# EAGLE library part 794623-8 (library con-amp_edit)
MICRO MATE N LOK Dual Row, grid 1.5 mm Source: http://catalog.tycoelectronics.com .. ENG_CD_794623_F.pdf
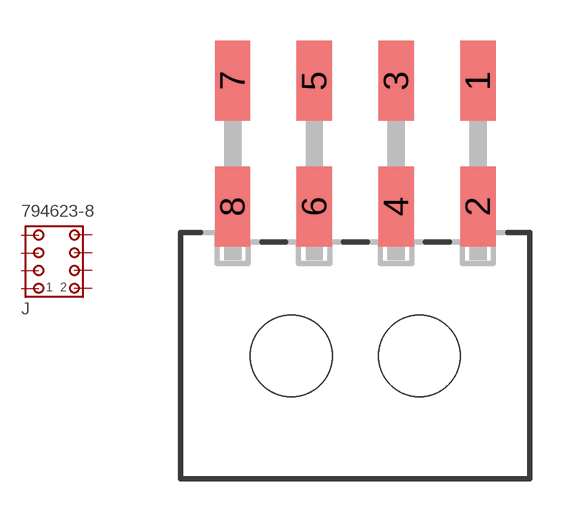
[diagram p144: symbol with the pads of 794623-8; footprint 794623-8]

Designator prefix J

## 794623-8  [794623-8]
1  1  pas
2  2  pas
3  3  pas
4  4  pas
5  5  pas
6  6  pas
7  7  pas
8  8  pas

## Footprint 794623-8 (pad centres in mm)
MICRO MATE N LOK Dual Row, grid 1.5 mm Source: http://catalog.tycoelectronics.com .. ENG_CD_794623_F.pdf
smd 1.3 x 2.92: 1 4.5,10.1; 2 4.5,5.48; 3 1.5,10.1; 4 1.5,5.48; 5 -1.5,10.1; 6 -1.5,5.48; 7 -4.5,10.1; 8 -4.5,5.48
hole 3 at -2.35,0
hole 3 at 2.35,0